# Altium schematic symbol library SnapEDAsch.SchLib: 1 symbol
Pins are listed as number, name and electrical type; pins without a type are passive.

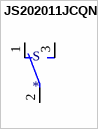
[diagram p0: symbol JS202011JCQN]

## JS202011JCQN
designator S
Slide Switch DPDT Surface Mount; MF: C&K; MP: JS202011JCQN; Value: *; Price: None; Availability: Unavailable; SnapEDA_Link: https://www.snapeda.com/parts/JS202011JCQN/C%26K/view-part/587766/?ref=snap; Package: None
footprint JS202011JCQN
pins: 1 O, 2 P, 3 S